# EAGLE library part 2134441-2 (library 2134441-2)
Body Features: Offset .88 MM | Shell Plating Material Tin over Nickel | Shell Plating Finish Matte | Connector Profile Micro | Configuration Features: Number of Positions 5 | Number of Ports 1 | Contact Features: Contact Mating Area Plating Material Thickness .76 MICM | Contact Current Rating (Max) 1.8 AMP | Contact Mating Area Plating Material Gold | Contact Mating Area Plating Material Thickness 29.52 MICIN | Dimensions: PCB Thickness (Recommended) .8 1. MM | PCB Thickness (Recommended) .031 .039 Source: Datasheet <https://www.te.com/commerce/DocumentDelivery/DDEController?Action=srchrtrv&DocNm=5-1773464-3&DocType=Data Sheet&DocLang=English&PartCntxt=2134441-2&DocFormat=pdf>
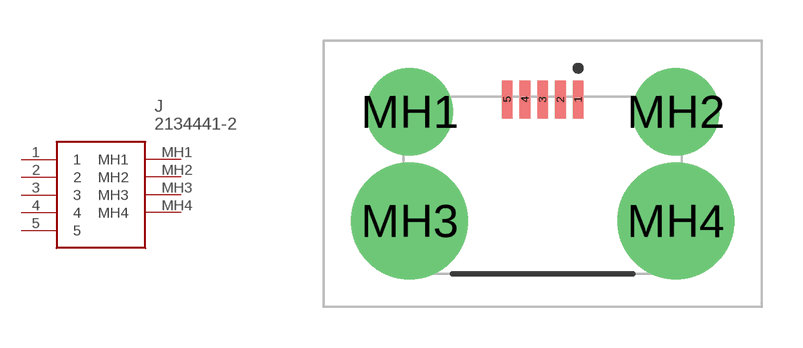
[diagram p0: symbol with the pads of 21344412; footprint 21344412]

Designator prefix J

## 2134441-2 (Arrow_Part_Number: 2134441-2; Arrow_Price-Stock: https://www.arrow.com/en/products/2134441-2/te-connectivity?region=nac; Description: Body Features: Offset .88 MM | Shell Plating Material Tin over Nickel | Shell Plating Finish Matte | Connector Profile Micro | Configuration Features: Number of Positions 5 | Number of Ports 1 | Contact Features: Contact Mating Area Plating Material Thickness .76 MICM | Contact Current Rating (Max) 1.8 AMP | Contact Mating Area Plating Material Gold | Contact Mating Area Plating Material Thickness 29.52 MICIN | Dimensions: PCB Thickness (Recommended) .8 1. MM | PCB Thickness (Recommended) .031 .039; Height: 1.9mm; Manufacturer_Name: TE Connectivity; Manufacturer_Part_Number: 2134441-2; Mouser_Part_Number: 571-2134441-2; Mouser_Price-Stock: https://www.mouser.co.uk/ProductDetail/TE-Connectivity/2134441-2?qs=kAqyOuzYGe%252Bz%252BAPK%2FThl2g%3D%3D)  [21344412]
1  1
2  2
3  3
4  4
5  5
MH1  MH1
MH2  MH2
MH3  MH3
MH4  MH4

## Footprint 21344412 (pad centres in mm)
2134441-2-3
smd 0.4 x 1.4: 1 1.3,4.45; 2 0.65,4.45; 3 0,4.45; 4 -0.65,4.45; 5 -1.3,4.45
drill 2.13 pad 3.195: MH1 -4.875,4; MH2 4.875,4
drill 2.86 pad 4.29: MH3 -4.875,0; MH4 4.875,0